# Altium footprint library SMA_Female.PcbLib: 1 footprints
Each footprint in its own frame and in the unit in brackets; x right, y up, seen from the top. Pads: shape width x height; smd on the part's side, far side on the other; paste and mask are expansions set on the pad; w line width, h text height; cw(c..) or ccw(c..) is an arc to the next point about the centre after c.
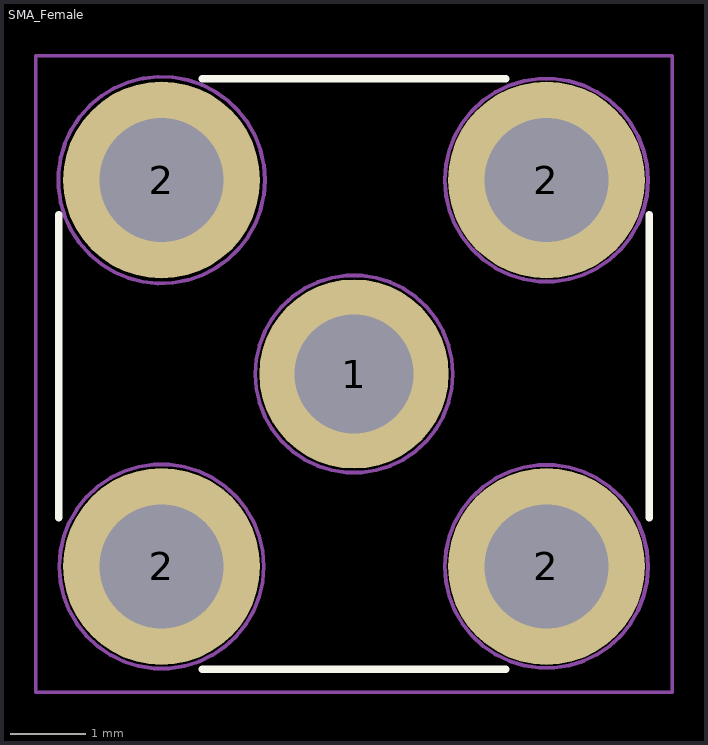
[diagram p0: the footprint, top view; thin cyan lines are the x and y axes]

## SMA_Female [mm]
pads (5):
  round 2.5 hole 1.57 mask+0: 1(15,9.5)
  round 2.6 hole 1.64 mask+0: 2(12.46,6.96) 2(12.46,12.06) 2(17.54,6.96) 2(17.54,12.06)
Top Overlay:
  lines w0.1: 11.1,7.6 11.1,11.6 ; 13,5.6 17,5.6 ; 13,13.4 17,13.4 ; 18.9,7.6 18.9,11.6
Mechanical 3:
  lines w0.05: 10.8,5.3 10.8,13.7 19.2,13.7 19.2,5.3 10.8,5.3
Mechanical 5:
  circle w0.05: c12.46,6.96 r1.35
  circle w0.05: c17.54,6.96 r1.341
  circle w0.05: c15,9.5 r1.304
  circle w0.05: c17.54,12.06 r1.341
  circle w0.05: c12.46,12.06 r1.365
Mechanical 7:
  lines w0.05: 10.8,5.3 10.8,13.7 ; 10.8,5.3 10.8,13.7 ; 10.8,5.3 19.2,5.3 19.2,13.7 10.8,13.7 ; 10.8,5.3 10.8,13.7
Mechanical 9:
  text "'.Designator'" at 9.7,7.4 h1
3D body "142-0701-201.stp": height 9.5, standoff -3.96, extent 11.038,5.538 18.963,13.463
3D body: height 0.1, standoff 0, extent 10.8,5.3 19.2,13.7